# EAGLE library part 691322110006 (library Wuerth_Elektronik_eiCan_Terminal_Blocks_v2.0)
WR-TBL Serie 3221 - 3.50mm Horizontal PCB Header, 6 Pins
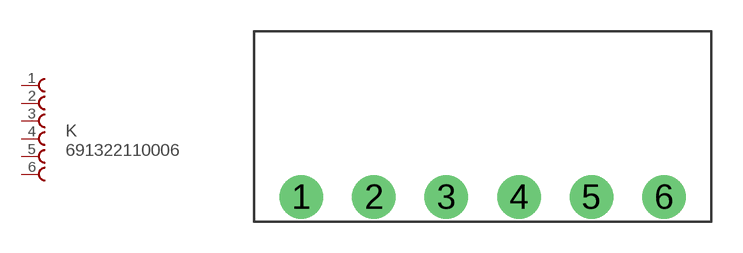
[diagram p1: symbol with the pads of 691322110006; footprint 691322110006]

Designator prefix K

## 691322110006  [691322110006]
1  1  pas
2  2  pas
3  3  pas
4  4  pas
5  5  pas
6  6  pas

## Footprint 691322110006 (pad centres in mm)
WR-TBL Serie 3221 - 3.50mm Horizontal PCB Header, 6 Pins
drill 1.4 round: 1 -8.75,0; 2 -5.25,0; 3 -1.75,0; 4 1.75,0; 5 5.25,0; 6 8.75,0